# EAGLE library part STEP_UP_CONTROLLER_6PIN (library FlashPCB_ICs)
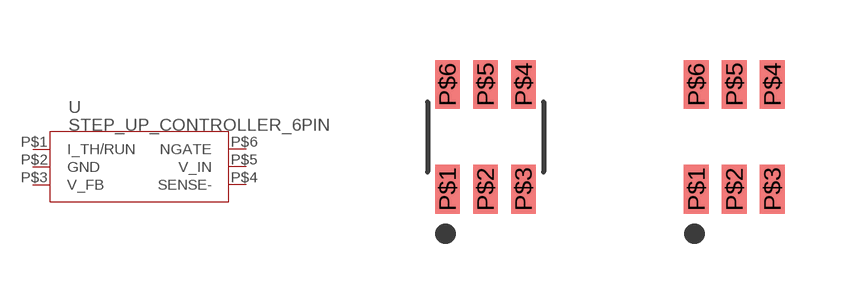
[diagram p84: symbol with the pads of SOT-23-6; footprints SOT-23-6, SOT-23-6_NOSILK]

Designator prefix U

## STEP_UP_CONTROLLER_6PINSOT-23_LTC1872  [SOT-23-6]
P$1  I_TH/RUN
P$2  GND
P$3  V_FB
P$4  SENSE-
P$5  V_IN
P$6  NGATE

## STEP_UP_CONTROLLER_6PINSOT-23_NOSK_LTC1872  [SOT-23-6_NOSILK]
Pads as for SOT-23-6

## Footprint SOT-23-6 (pad centres in mm)
smd 0.62 x 1.22: P$1 -0.95,-1.31; P$2 0,-1.31; P$3 0.95,-1.31; P$4 0.95,1.31; P$5 0,1.31; P$6 -0.95,1.31

## Footprint SOT-23-6_NOSILK (pad centres in mm)
smd 0.62 x 1.22: P$1 -0.95,-1.31; P$2 0,-1.31; P$3 0.95,-1.31; P$4 0.95,1.31; P$5 0,1.31; P$6 -0.95,1.31